# Altium schematic symbol library DE2E3SA332MA3BY02F.SchLib: 1 symbol
Pins are listed as number, name and electrical type; pins without a type are passive.

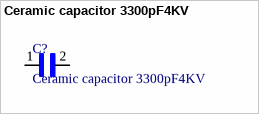
[diagram p0: symbol Ceramic capacitor 3300pF4KV]

## Ceramic capacitor 3300pF4KV
designator C?
Ceramic capacitor 3300pF4KV, Tension nominale 400Vac(r.m.s.), 4KV ESD, DE2E3SA332MA3BY02F; MF: Murata; Package: NONSTANDARD; Value: *; Purchase-URL: https://pricing.snapeda.com/search/part/DE2E3SA332MA3BY02F/?ref=eda; Availability: Bad; SnapEDA_Link: https://www.snapeda.com/parts/DE2E3SA332MA3BY02F/Murata/view-part/2799752/?ref=snap; Price: None; MP: DE2E3SA332MA3BY02F; Check_prices: https://www.snapeda.com/parts/DE2E3SA332MA3BY02F/Murata/view-part/2799752/?ref=eda
footprint CAP_DE2E3SA332MA3BY02F
pins: 1, 2